# EAGLE library part PH_1X12 (library PP_Connectors)
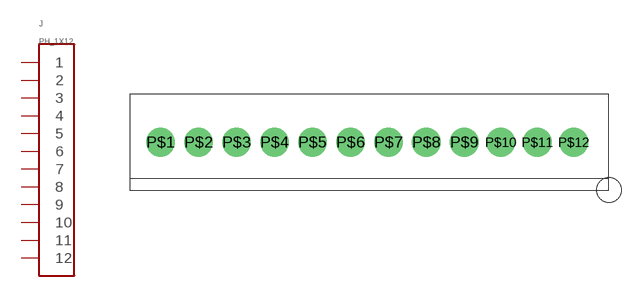
[diagram p14: symbol with the pads of MOLEX_KK_12; footprint MOLEX_KK_12]

Designator prefix J

## PH_1X12KK_12  [MOLEX_KK_12]
P$1  1
P$2  2
P$3  3
P$4  4
P$5  5
P$6  6
P$7  7
P$8  8
P$9  9
P$10  10
P$11  11
P$12  12

## Footprint MOLEX_KK_12 (pad centres in mm)
drill 2: P$1 -21.793,0; P$2 -17.831,0; P$3 -13.868,0; P$4 -9.906,0; P$5 -5.944,0; P$6 -1.981,0; P$7 1.981,0; P$8 5.944,0; P$9 9.906,0; P$10 13.716,0; P$11 17.526,0; P$12 21.336,0